# Altium schematic symbol library ADF4360.SCHLIB: 1 symbol
Pins are listed as number, name and electrical type; pins without a type are passive.

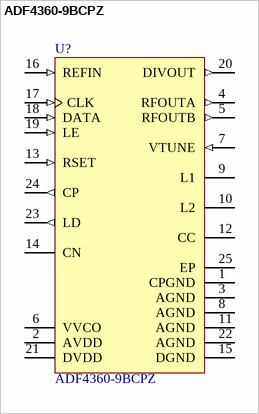
[diagram p0: symbol ADF4360-9BCPZ]

## ADF4360-9BCPZ
designator U?
Clock Generator PLL with Integrated VCO, CP-24-2, Pb-Free, 490 Tray; Max REFin (MHz): 250MHz; Max RF Input (MHz): 400MHz; Frequency Range: 1.1-200 MHz; Supply Current: 30mA; Norm Phase Noise (dBc/Hz): -216dBc; Single/Dual: Single; PackageReference: CP-24-2; ComponentLink1Description: Manufacturer URL; ComponentLink1URL: www.analog.com; ComponentLink3URL: http://www.analog.com/static/imported-files/packages/588305704543880784658541CP_24_2.pdf; PackageVersion: Jan-2005; ComponentLink2Description: Datasheet; Code_JEDEC: MO-220-VGGD-2; ComponentLink2URL: http://www.analog.com/static/imported-files/data_sheets/ADF4360-9.pdf; ComponentLink3Description: Package Specification; PackageDescription: 24-Lead Lead Frame Chip Scale Package [LFCSP_VQ]; DatasheetVersion: Rev. B
footprint ADI-CP-24-2_M
footprint ADI-CP-24-2_L
footprint ADI-CP-24-2_N
pins: 1 CPGND (power) "Charge Pump Ground. This is the ground return path for the charge pump.", 2 AVDD (power) "Analog Power Supply. This ranges from 3.0 V to 3.6 V. Decoupling capacitors to the analog ground plane should be placed as close as possible to this pin. [see datasheet]", 3 AGND (power) "Analog Ground. This is the ground return path of the prescaler and VCO.", 4 RFOUTA (out) "VCO Output. The output level is programmable from 0 dBm to -9 dBm. See the Output Matching section for a description of the various output stages.", 5 RFOUTB (out) "VCO Complementary Output. The output level is programmable from 0 dBm to -9 dBm. See the Output Matching section for a description of the various output stages.", 6 VVCO (power) "Power Supply for the VCO. This ranges from 3.0 V to 3.6 V. Decoupling capacitors to the analog ground plane should be placed as close as possible to this pin. [see datasheet]", 7 VTUNE (in) "Control Input to the VCO. This voltage determines the output frequency and is derived from filtering the CP output voltage.", 8 AGND (power) "Analog Ground. This is the ground return path of the prescaler and VCO.", 9 L1 "An external inductor to AGND should be connected to this pin to set the ADF4360-9 output frequency. L1 and L2 need to be the same value. A 470  ohm resistor should be added in parallel to AGND", 10 L2 "An external inductor to AGND should be connected to this pin to set the ADF4360-9 output frequency. L1 and L2 need to be the same value. A 470  ohm resistor should be added in parallel to AGND.", 11 AGND (power) "Analog Ground. This is the ground return path of the prescaler and VCO.", 12 CC "Internal Compensation Node. This pin must be decoupled to ground with a 10 nF capacitor.", 13 RSET (in) "Connecting a resistor between this pin and CPGND sets the maximum charge pump output current for the synthesizer. The nominal voltage potential at the RSET pin is 0.6 V. [see datasheet]", 14 CN "Internal Compensation Node. This pin must be decoupled to VVCO with a 10 uF capacitor.", 15 DGND (power) "Digital Ground.", 16 REFIN (in) "Reference Input. This is a CMOS input with a nominal threshold of VDD/2 and a dc equivalent input resistance of 100 k ohm (see Figure 16). [see datasheet]", 17 CLK (in) "Serial Clock Input. This serial clock is used to clock in the serial data to the registers. The data is latched into the 24-bit shift register on the CLK rising edge. [see datasheet]", 18 DATA (in) "Serial Data Input. The serial data is loaded MSB first with the two LSBs being the control bits. This input is a high impedance CMOS input.", 19 LE (in) "Load Enable, CMOS Input. When LE goes high, the data stored in the shift registers is loaded into one of the four latches, and the relevant latch is selected using the control bits.", 20 DIVOUT (out) "This output allows the user to select VCO frequency divided by A or VCO frequency divided by 2A. [see datasheet]", 21 DVDD (power) "Digital Power Supply. This ranges from 3.0 V to 3.6 V. Decoupling capacitors to the digital ground plane should be placed as close as possible to this pin. [see datasheet]", 22 AGND (power) "Analog Ground. This is the ground return path of the prescaler and VCO.", 23 LD (out) "Lock Detect. The output on this pin is logic high to indicate that the part is in lock. Logic low indicates loss of lock.", 24 CP (out) "Charge Pump Output. When enabled, this provides +/-ICP to the external loop filter, which in turn drives the internal VCO.", 25 EP (power) "Exposed Pad. The exposed pad must be connected to AGND."